# Altium schematic symbol library ROX3SJ33R.SchLib: 1 symbol
Pins are listed as number, name and electrical type; pins without a type are passive.

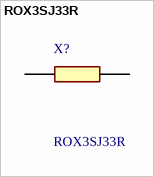
[diagram p0: symbol ROX3SJ33R]

## ROX3SJ33R
designator X?
ROX3S metal oxide film resistor,33R 3W TE Connectivity ROX3S Series Axial Metal Film Resistor 33; Mouser Part Number: 279-ROX3SJ33R; Mouser Price/Stock: https://www.mouser.co.uk/ProductDetail/TE-Connectivity-Holsworthy/ROX3SJ33R?qs=ip69W3eHERVJGWl7kMO4nA%3D%3D; Manufacturer_Name: TE Connectivity; Manufacturer_Part_Number: ROX3SJ33R; Datasheet Link: https://datasheet.datasheetarchive.com/originals/distributors/DKDS-39/9124.pdf
footprint RESAD3700W80L1500D550
pins: 1, 2